# Altium footprint library PcbLibForHigh_Voltage_Sensor.PcbLib: 50 footprints (part 2 of 4)
Each footprint in its own frame and in the unit in brackets; x right, y up, seen from the top. Pads: shape width x height; smd on the part's side, far side on the other; paste and mask are expansions set on the pad; w line width, h text height; cw(c..) or ccw(c..) is an arc to the next point about the centre after c.
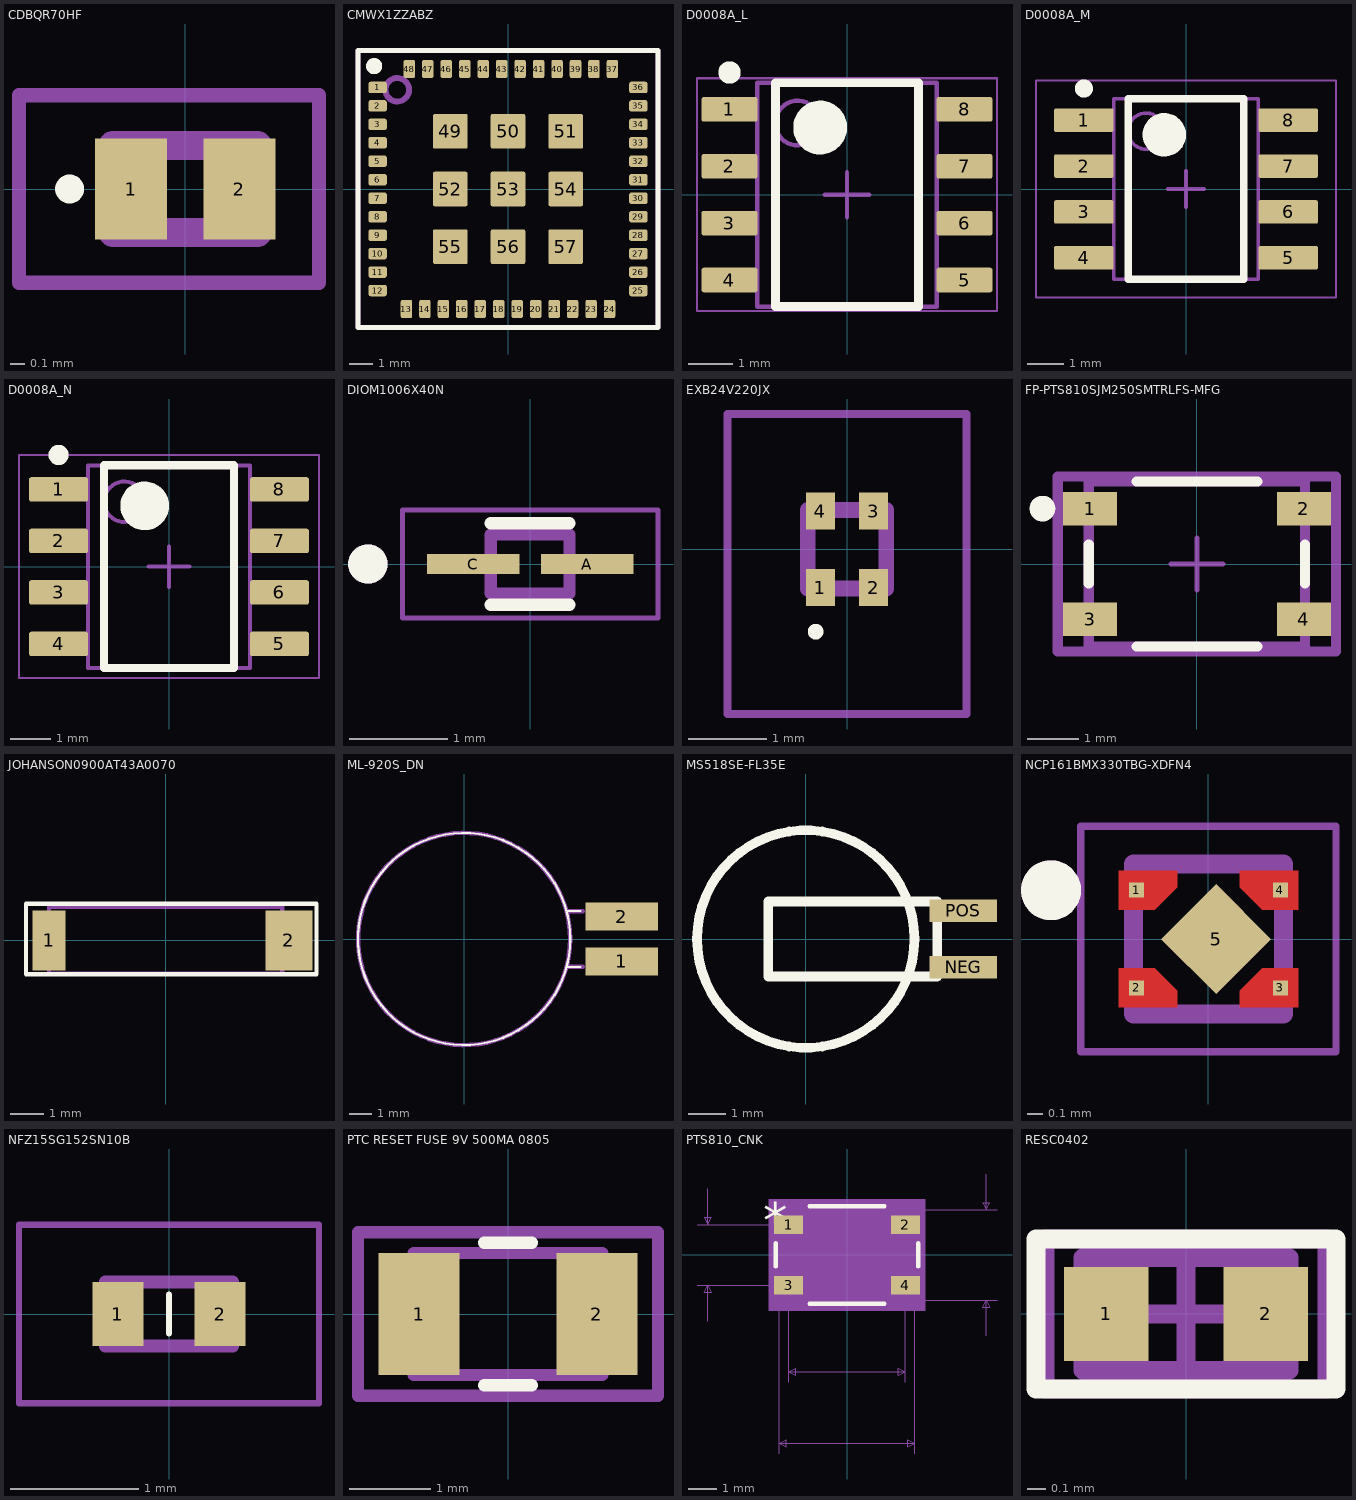
[diagram p1: the footprints below, top view; thin cyan lines are the x and y axes]

## CDBQR70HF [mm]
pads (2):
  rect 0.5x0.7 smd: 1(-0.375,0) 2(0.375,0)
Top Overlay:
  lines w0.1: -0.8,-0.05 cw(c-0.8,0) -0.8,0.05 cw(c-0.8,0) -0.8,-0.05
Mechanical 13:
  lines w0.2: -0.5,-0.3 -0.5,0.3 0.5,0.3 0.5,-0.3 -0.5,-0.3
Mechanical 15:
  lines w0.1: -1.15,-0.65 -1.15,0.65 0.925,0.65 0.925,-0.65 -1.15,-0.65
3D body "Stackpole CSR0402 Res.STEP": height 0.32, standoff 0, extent -0.5,-0.25 0.55,0.25

## CMWX1ZZABZ [mm] "muRata LoRa module"
height 1.76
pads (57):
  rrect40% 0.8x0.5 smd: 1(-5.65,4.4) 2(-5.65,3.6) 3(-5.65,2.8) 4(-5.65,2) 5(-5.65,1.2) 6(-5.65,0.4) 7(-5.65,-0.4) 8(-5.65,-1.2) 9(-5.65,-2) 10(-5.65,-2.8) 11(-5.65,-3.6) 12(-5.65,-4.4) 25(5.65,-4.4) 26(5.65,-3.6) 27(5.65,-2.8) 28(5.65,-2) 29(5.65,-1.2) 30(5.65,-0.4) 31(5.65,0.4) 32(5.65,1.2) 33(5.65,2) 34(5.65,2.8) 35(5.65,3.6) 36(5.65,4.4)
  rrect40% 0.5x0.8 smd: 13(-4.4,-5.2) 14(-3.6,-5.2) 15(-2.8,-5.2) 16(-2,-5.2) 17(-1.2,-5.2) 18(-0.4,-5.2) 19(0.4,-5.2) 20(1.2,-5.2) 21(2,-5.2) 22(2.8,-5.2) 23(3.6,-5.2) 24(4.4,-5.2) 37(4.525,5.2) 38(3.725,5.2) 39(2.925,5.2) 40(2.125,5.2) 41(1.325,5.2) 42(0.525,5.2) 43(-0.275,5.2) 44(-1.075,5.2) 45(-1.875,5.2) 46(-2.675,5.2) 47(-3.475,5.2) 48(-4.275,5.2)
  rrect10% 1.5x1.5 smd: 49(-2.5,2.5) 50(0,2.5) 51(2.5,2.5) 52(-2.5,0) 53(0,0) 54(2.5,0) 55(-2.5,-2.5) 56(0,-2.5) 57(2.5,-2.5)
Top Overlay:
  circle w0.4: c-5.8,5.325 r0.15
  lines w0.203: -6.5,-6 -6.5,6 6.5,6 6.5,-6 -6.5,-6
Top Assembly:
  circle w0.254: c-4.8,4.3 r0.51
  lines w0.203: -6.5,-6 6.5,-6 6.5,6 -6.5,6 -6.5,-6
  text ".designator" at -4.775,-2.075 h3
3D body "CMWX1ZZABZ.STEP": height 1.76, standoff 0, extent -6.25,-5.8 6.25,5.8

## D0008A_L [mm] "SOIC, 8-Leads, Body 5x4mm, Pitch 1.27mm, IPC High Density"
height 1.75
pads (8):
  rrect18% 1.25x0.55 smd: 1(-2.625,1.905) 2(-2.625,0.635) 3(-2.625,-0.635) 4(-2.625,-1.905) 5(2.625,-1.905) 6(2.625,-0.635) 7(2.625,0.635) 8(2.625,1.905)
Top Overlay:
  circle w0.6: c-0.6,1.5 r0.3
  circle w0.25: c-2.625,2.73 r0.125
  lines w0.2: -1.6,-2.5 1.6,-2.5 1.6,2.5 -1.6,2.5 -1.6,-2.5
Mechanical 1:
  text ".Designator" at -1.397,-0.254 h0.6
Mechanical 13:
  circle w0.1: c-1.1,1.6 r0.5
  lines w0.1: -2,-2.5 2,-2.5 2,2.5 -2,2.5 -2,-2.5
Mechanical 15:
  lines w0.05: -3.35,-2.6 3.35,-2.6 3.35,2.6 -3.35,2.6 -3.35,-2.6
  lines w0.1: -0.5,0 0.5,0 ; 0,-0.5 0,0.5
3D body "SOIC-8akaD0008AakaM08A.stp": height 1.63, standoff 0, extent -3,-2.45 3,2.45

## D0008A_M [mm] "SOIC, 8-Leads, Body 5x4mm, Pitch 1.27mm, IPC Low Density"
height 1.75
pads (8):
  rrect15% 1.65x0.65 smd: 1(-2.825,1.905) 2(-2.825,0.635) 3(-2.825,-0.635) 4(-2.825,-1.905) 5(2.825,-1.905) 6(2.825,-0.635) 7(2.825,0.635) 8(2.825,1.905)
Top Overlay:
  circle w0.6: c-0.6,1.5 r0.3
  circle w0.25: c-2.825,2.78 r0.125
  lines w0.2: -1.6,-2.5 1.6,-2.5 1.6,2.5 -1.6,2.5 -1.6,-2.5
Mechanical 1:
  text ".Designator" at -1.397,-0.254 h0.6
Mechanical 13:
  circle w0.1: c-1.1,1.6 r0.5
  lines w0.1: -2,-2.5 2,-2.5 2,2.5 -2,2.5 -2,-2.5
Mechanical 15:
  lines w0.05: -4.15,-3 4.15,-3 4.15,3 -4.15,3 -4.15,-3
  lines w0.1: -0.5,0 0.5,0 ; 0,-0.5 0,0.5
3D body "SOIC-8akaD0008AakaM08A.stp": height 1.63, standoff 0, extent -3,-2.45 3,2.45

## D0008A_N [mm] "SOIC, 8-Leads, Body 5x4mm, Pitch 1.27mm, IPC Medium Density"
height 1.75
pads (8):
  rrect17% 1.45x0.6 smd: 1(-2.725,1.905) 2(-2.725,0.635) 3(-2.725,-0.635) 4(-2.725,-1.905) 5(2.725,-1.905) 6(2.725,-0.635) 7(2.725,0.635) 8(2.725,1.905)
Top Overlay:
  circle w0.6: c-0.6,1.5 r0.3
  circle w0.25: c-2.725,2.755 r0.125
  lines w0.2: -1.6,-2.5 1.6,-2.5 1.6,2.5 -1.6,2.5 -1.6,-2.5
Mechanical 1:
  text ".Designator" at -1.397,-0.254 h0.6
Mechanical 13:
  circle w0.1: c-1.1,1.6 r0.5
  lines w0.1: -2,-2.5 2,-2.5 2,2.5 -2,2.5 -2,-2.5
Mechanical 15:
  lines w0.05: -3.7,-2.75 3.7,-2.75 3.7,2.75 -3.7,2.75 -3.7,-2.75
  lines w0.1: -0.5,0 0.5,0 ; 0,-0.5 0,0.5
3D body "SOIC-8akaD0008AakaM08A.stp": height 1.63, standoff 0, extent -3,-2.45 3,2.45

## DIOM1006X40N [mm]
pads (2):
  rect 0.94x0.2 smd: A(0.58,0) C(-0.58,0)
Top Overlay:
  circle w0.2: c-1.651,0 r0.1
  lines w0.127: -0.4,-0.415 0.4,-0.415 ; -0.4,0.415 0.4,0.415
Mechanical 13:
  circle w0.2: c-1.651,0 r0.1
  lines w0.127: -0.4,-0.3 0.4,-0.3 0.4,0.3 -0.4,0.3 -0.4,-0.3
Mechanical 15:
  lines w0.05: -1.3,-0.55 -1.3,0.55 1.3,0.55 1.3,-0.55 -1.3,-0.55
3D body "step_temp.STEP": height 0.4, standoff 0, extent -0.5,-0.3 0.5,0.3

## EXB24V220JX [mm]
pads (4):
  rect 0.375x0.475 smd: 1(-0.338,-0.488) 2(0.338,-0.488) 3(0.338,0.487) 4(-0.338,0.487)
Top Overlay:
  lines w0.1: -0.4,-1.1 ccw(c-0.4,-1.05) -0.4,-1 ccw(c-0.4,-1.05) -0.4,-1.1
Mechanical 13:
  lines w0.2: -0.5,-0.5 -0.5,0.5 0.5,0.5 0.5,-0.5 -0.5,-0.5
Mechanical 15:
  lines w0.1: -1.525,-2.1 -1.525,1.725 1.525,1.725 1.525,-2.1 -1.525,-2.1
3D body "EXB-24V220JX.stp": height 0.55, standoff 0, extent -0.5,-0.688 0.5,0.687

## FP-PTS810SJM250SMTRLFS-MFG [mm]
pads (4):
  rect 1.05x0.65 smd paste+0 mask+0: 1(-2.075,1.075) 2(2.075,1.075) 3(-2.075,-1.075) 4(2.075,-1.075)
Top Overlay:
  circle w0.25: c-3,1.075 r0.125
  lines w0.2: -2.1,-0.375 -2.1,0.375 ; -1.175,-1.6 1.175,-1.6 ; -1.175,1.6 1.175,1.6 ; 2.1,-0.375 2.1,0.375
Mechanical 5:
  lines w0.2: -2.7,-1.7 -2.7,1.7 2.7,1.7 2.7,-1.7 -2.7,-1.7
  text ".Designator" at 0,0.188 h1
Mechanical 13:
  lines w0.2: -2.1,-1.6 -2.1,1.6 2.1,1.6 2.1,-1.6 -2.1,-1.6
Mechanical 15:
  lines w0.2: -2.7,-1.7 -2.7,1.7 2.7,1.7 2.7,-1.7 -2.7,-1.7
Mechanical 16:
  lines w0.1: -0.5,0 0.5,0 ; 0,-0.5 0,0.5
3D body "Switch_C&K_Components_PTS810SJM250SMTRLFS_eec.STEP": height 0.25, standoff 0, extent -2.7,-1.7 2.7,1.7

## JOHANSON0900AT43A0070 [mm]
pads (2):
  rect 1x1.8 smd: 1(-3.5,0)
  rect 1.4x1.8 smd: 2(3.7,0)
Top Overlay:
  lines w0.127: -4.191,-1.016 4.496,-1.016 4.521,-1.016 4.521,1.092 -4.039,1.092 -4.191,1.092 -4.191,-0.991 -4.191,-1.016
Mechanical 3:
  lines w0.127: -3.5,-1 -3.5,1 3.5,1 3.5,-1 -3.5,-1
3D body: height 1.27, standoff 0, extent 3,-0.9 4.4,0.9
3D body: height 1.27, standoff 0, extent -4,-0.9 -3,0.9
3D body: height 3.81, standoff 0, extent -3.569,-1.069 -3.431,1.069
3D body: height 3.81, standoff 0, extent -3.569,-1.069 3.569,-0.931
3D body: height 3.81, standoff 0, extent 3.431,-1.069 3.569,1.069
3D body: height 3.81, standoff 0, extent -3.569,0.931 3.569,1.069

## ML-920S_DN [mm]
pads (2):
  rect 3.25x1.25 smd: 1(7.05,-1) 2(7.05,1)
Top Overlay:
  circle w0.1: c0,0 r4.75
  lines w0.1: 4.583,-1.25 5.2,-1.25 ; 4.583,1.25 5.2,1.25
Mechanical 13:
  circle w0.2: c0,0 r4.75
  lines w0.2: 4.583,-1.25 5.3,-1.25 ; 4.583,1.25 5.3,1.25

## MS518SE-FL35E [mm]
pads (2):
  rect 1.8x0.6 smd: NEG(4.2,-0.75) POS(4.2,0.75)
Top Overlay:
  circle w0.254: c0,0 r2.9
  lines w0.254: -1,-1 3.508,-1 3.508,1 -1,1 -1,-1

## NCP161BMX330TBG-XDFN4 [mm] "Linear Voltage Requlator IC 450mA, XDFN4"
pads (5):
  rect 0.1x0.1 smd paste-1 mask+0: 1(-0.48,0.325) 2(-0.48,-0.325) 3(0.48,-0.325) 4(0.48,0.325)
  rect 0.52x0.52 smd rot 135 paste-1 mask+0: 5(0.051,0)
Top Layer:
  region: 0.6,-0.455 0.21,-0.455 0.21,-0.345 0.36,-0.195 0.6,-0.195
  region: -0.21,-0.345 -0.21,-0.455 -0.6,-0.455 -0.6,-0.195 -0.36,-0.195
  region: -0.21,0.345 -0.36,0.195 -0.6,0.195 -0.6,0.455 -0.21,0.455
  region: 0.6,0.195 0.36,0.195 0.21,0.345 0.21,0.455 0.6,0.455
Top Overlay:
  circle w0.2: c-1.05,0.325 r0.1
Top Paste:
  region: 0.164,-0.164 -0.164,-0.164 -0.164,0.164 0.164,0.164
  region: -0.21,-0.345 -0.21,-0.455 -0.6,-0.455 -0.6,-0.195 -0.36,-0.195
  region: 0.6,0.195 0.36,0.195 0.21,0.345 0.21,0.455 0.6,0.455
  region: 0.6,-0.455 0.21,-0.455 0.21,-0.345 0.36,-0.195 0.6,-0.195
  region: -0.21,0.345 -0.36,0.195 -0.6,0.195 -0.6,0.455 -0.21,0.455
Top Solder:
  region: 0.4,0 0,-0.4 -0.4,0 0,0.4
  region: 0.65,-0.505 0.16,-0.505 0.16,-0.345 0.36,-0.145 0.65,-0.145
  region: -0.16,-0.345 -0.16,-0.505 -0.65,-0.505 -0.65,-0.145 -0.36,-0.145
  region: -0.16,0.345 -0.36,0.145 -0.65,0.145 -0.65,0.505 -0.16,0.505
  region: 0.65,0.145 0.36,0.145 0.16,0.345 0.16,0.505 0.65,0.505
Mechanical 13:
  circle w0.2: c-1.05,0.325 r0.1
  lines w0.127: -0.5,-0.5 -0.5,0.5 0.5,0.5 0.5,-0.5 -0.5,-0.5
Mechanical 15:
  lines w0.05: -0.85,-0.75 0.85,-0.75 0.85,0.75 -0.85,0.75 -0.85,-0.75
3D body "NCP161BMX330TBG.STEP": height 0.38, standoff -0.05, extent -0.5,-0.5 0.5,0.5

## NFZ15SG152SN10B [mm]
pads (2):
  rect 0.4x0.5 smd: 1(-0.4,0) 2(0.4,0)
Top Overlay:
  lines w0.05: 0,-0.15 0,0.15
Mechanical 13:
  lines w0.1: -0.5,-0.25 -0.5,0.25 0.5,0.25 0.5,-0.25 -0.5,-0.25
Mechanical 15:
  lines w0.05: -1.175,-0.7 -1.175,0.7 1.175,0.7 1.175,-0.7 -1.175,-0.7
3D body "BLM15HB121SN1D.stp": height 0.65, standoff 0, extent -0.56,-0.25 0.56,0.25

## PTC RESET FUSE 9V 500MA 0805 [mil] "PTC RESET FUSE 9V 500MA 0805"
pads (2):
  rect 39x59 smd: 1(-43,0) 2(43,0)
Top Overlay:
  lines w6: -11.39,-34.5 11.39,-34.5 ; -11.39,34.5 11.39,34.5
Mechanical 1:
  lines w1: -45.5,-29.5 -45.5,29.5 45.5,29.5 45.5,-29.5 -45.5,-29.5
Mechanical 16:
  lines w6: -72.5,-39.5 -55.5,-39.5 55.5,-39.5 72.5,-39.5 72.5,39.5 55.5,39.5 -55.5,39.5 -72.5,39.5 -72.5,-39.5 ; -45.5,-29.5 -45.5,29.5 45.5,29.5 45.5,-29.5 -45.5,-29.5
3D body "0ZCK_BEL.step": height 71.1, standoff -0.12, extent -45.51,-29.6 45.51,29.61

## PTS810_CNK [mm]
pads (4):
  rect 1.041x0.66 smd paste+0 mask+0: 1(-2.075,1.075) 2(2.075,1.075) 3(-2.075,-1.075) 4(2.075,-1.075)
Top Overlay:
  lines w0.152: -2.527,-0.412 -2.527,0.412 ; -1.327,-1.727 1.327,-1.727 ; -1.327,1.727 1.327,1.727 ; 2.527,-0.412 2.527,0.412
  text "*" at -2.972,0.584 h1.27
Mechanical 5:
  region: -2.781,1.981 2.781,1.981 2.781,-1.981 -2.781,-1.981
Mechanical 7:
  lines w0.025: -5.321,-1.075 -2.075,-1.075 -2.075,-4.521 ; -5.321,1.075 -2.075,1.075 ; -4.94,-2.345 -4.94,-1.075 ; -4.94,2.345 -4.94,1.075 ; -2.4,-7.061 -2.4,-1.6 ; 2.075,-4.521 2.075,-1.075 ; 2.4,-7.061 2.4,-1.6 5.321,-1.6 ; 2.4,1.6 5.321,1.6 ; 4.94,-2.87 4.94,-1.6 ; 4.94,2.87 4.94,1.6 ; -4.94,-1.075 -5.067,-1.329 -4.813,-1.329 -4.94,-1.075 ; -4.94,1.075 -5.067,1.329 -4.813,1.329 -4.94,1.075 ; -2.4,-6.68 2.4,-6.68 ; -2.4,-6.68 -2.146,-6.553 -2.146,-6.807 -2.4,-6.68 ; -2.075,-4.14 2.075,-4.14 ; -2.075,-4.14 -1.821,-4.013 -1.821,-4.267 -2.075,-4.14 ; 2.075,-4.14 1.821,-4.013 1.821,-4.267 2.075,-4.14 ; 2.4,-6.68 2.146,-6.553 2.146,-6.807 2.4,-6.68 ; 4.94,-1.6 4.813,-1.854 5.067,-1.854 4.94,-1.6 ; 4.94,1.6 4.813,1.854 5.067,1.854 4.94,1.6
  text "Mounting Padstyle: RX41Y26D0T" at -9.207,-10.49 h1.27
  text "Alt 1 Padstyle: OX60Y90D30P" at -8.572,-12.395 h1.27
  text "Alt 2 Padstyle: OX90Y60D30P" at -8.572,-14.3 h1.27
  text "0.085in/2.15mm" at -9.893,-0.318 h0.64
  text "0.163in/4.15mm" at -2.222,-5.283 h0.64
  text "0.126in/3.2mm" at 5.448,1.283 h0.64
  text "0.189in/4.801mm" at -2.381,-7.823 h0.64
Mechanical 13:
  lines w0.025: -2.4,-0.8 -2.4,0.8 -1.2,1.6 1.2,1.6 2.4,0.8 2.4,-0.8 1.2,-1.6 -1.2,-1.6 -2.4,-0.8
  text "*" at -1.829,-0.178 h1.27
Mechanical 15:
  region: 2.659,-1.854 -2.659,-1.854 -2.659,1.854 2.659,1.854
  lines w0.152: -2.659,-1.854 -2.659,1.854 2.659,1.854 2.659,-1.854 -2.659,-1.854
3D body: height 0.25, standoff 0, extent 0,0 0.254,0.254

## RESC0402 [mm] "Chip Resistor 0402, 2-Leads, Body 1.05x0.54mm, IPC High Density"
height 0.4
pads (2):
  rect 0.45x0.5 smd: 1(-0.425,0) 2(0.425,0)
Top Overlay:
  lines w0.1: -0.8,-0.4 -0.8,0.4 0.8,0.4 0.8,-0.4 -0.8,-0.4
Mechanical 13:
  lines w0.1: -0.55,-0.3 0.55,-0.3 0.55,0.3 -0.55,0.3 -0.55,-0.3
Mechanical 15:
  lines w0.05: -0.75,-0.4 0.75,-0.4 0.75,0.4 -0.75,0.4 -0.75,-0.4
  lines w0.1: -0.3,0 0.3,0 ; 0,-0.3 0,0.3
Mechanical 29:
  lines w0.1: -0.75,-0.4 0.75,-0.4 0.75,0.4 -0.75,0.4 -0.75,-0.4
  text "'.Designator'" at -0.75,-0.2 h0.5
3D body: height 0.4, standoff 0, extent 0.35,-0.3 0.55,0.3
3D body: height 0.4, standoff 0, extent -0.55,-0.3 -0.35,0.3
3D body: height 0.4, standoff 0, extent -0.35,-0.3 0.35,0.3